# Altium schematic symbol library SLF0732.Schlib: 1 symbol
Pins are listed as number, name and electrical type; pins without a type are passive.

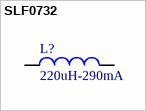
[diagram p0: symbol SLF0732]

## SLF0732
designator L?, comment 220uH-290mA
Power Inductor
pins: 1, 2